# EAGLE library part TMC2130 (library TMC2130-Library_v3)
The BIGTREETECH's TMC2130 is a stepper motor driver module that utilizes Trinamic's TMC2130 IC, designed for silent and precise motor operations. It supports sophisticated features like spreadCycle™, stealthChop™, and stallGuard™, which enhance motor performance, reduce noise, and enable sensorless homing. With SPI communication for configuration, this driver is well-suited for 3D printers and CNC machines.
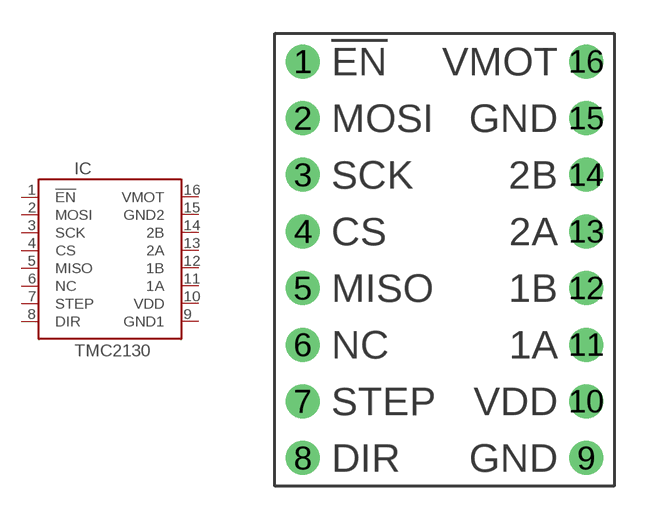
[diagram p0: symbol with the pads of TMC2130; footprint TMC2130]

Designator prefix IC

## TMC2130TMC2130  [TMC2130]
1  !EN  pas
2  MOSI  pas
3  SCK  pas
4  CS  pas
5  MISO  pas
6  NC  pas
7  STEP  in
8  DIR  in
9  GND1  pwr
10  VDD  pwr
11  1A  out
12  1B  out
13  2A  out
14  2B  out
15  GND2  pwr
16  VMOT  pwr

## Footprint TMC2130 (pad centres in mm)
The BIGTREETECH's TMC2130 is a stepper motor driver module that utilizes Trinamic's TMC2130 IC, designed for silent and precise motor operations. It supports sophisticated features like spreadCycle™, stealthChop™, and stallGuard™, which enhance motor performance, reduce noise, and enable sensorless homing. With SPI communication for configuration, this driver is well-suited for 3D printers and CNC machines.
drill 1.016: 1 -6.35,8.89; 2 -6.35,6.35; 3 -6.35,3.81; 4 -6.35,1.27; 5 -6.35,-1.27; 6 -6.35,-3.81; 7 -6.35,-6.35; 8 -6.35,-8.89; 9 6.35,-8.89; 10 6.35,-6.35; 11 6.35,-3.81; 12 6.35,-1.27; 13 6.35,1.27; 14 6.35,3.81; 15 6.35,6.35; 16 6.35,8.89